# EAGLE library part MX25L25635FZ2I (library Custom)
serial Flash memory
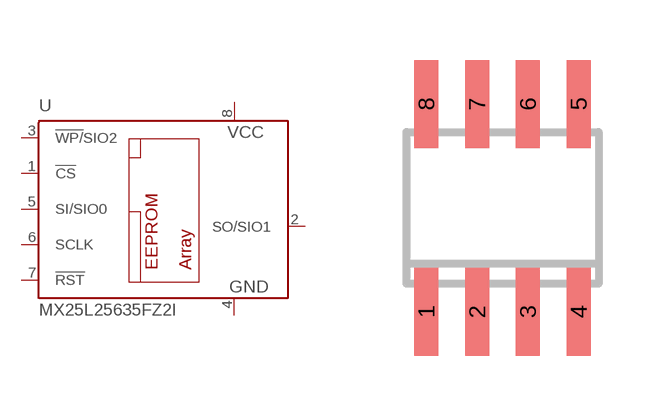
[diagram p62: symbol with the pads of SO08; footprint SO08]

Designator prefix U

## MX25L25635FZ2I-10G  [SO08]
1  !CS  in
2  SO/SIO1
3  !WP/!SIO2  in
4  GND  pwr
5  SI/SIO0  in
6  SCLK  in
7  !RST  in
8  VCC  pwr

## Footprint SO08 (pad centres in mm)
Small Outline Package 8 NS Package M08A
smd 0.6 x 2.2: 1 -1.905,-2.6; 2 -0.635,-2.6; 3 0.635,-2.6; 4 1.905,-2.6; 5 1.905,2.6; 6 0.635,2.6; 7 -0.635,2.6; 8 -1.905,2.6